# Altium schematic symbol library CMT-0502-75-SMT-TR.SchLib: 2 symbols
Pins are listed as number, name and electrical type; pins without a type are passive.

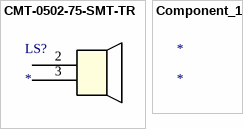
[diagram p0: symbols CMT-0502-75-SMT-TR to Component_1]

## CMT-0502-75-SMT-TR
designator LS?
No Description Available; Mfr_Name: Same Sky; RefDes: RefDes; Type: Type
footprint CMT-0502_CUD
pins: 2 1, 3 2

## Component_1
designator *